# EAGLE library part MA700GQ-Z (library HKCV4)
MA700GQ-Z
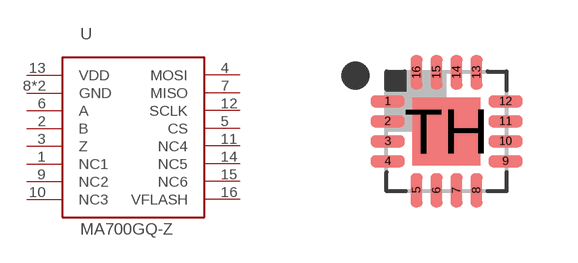
[diagram p1: symbol with the pads of QFN16; footprint QFN16]

Designator prefix U

## MA700GQ-Z (VALUE: MA700GQ-Z)  [QFN16]
1  NC1
2  B
3  Z
4  MOSI
5  CS
6  A
7  MISO
8  GND
9  NC2
10  NC3
11  NC4
12  SCLK
13  VDD
14  NC5
15  NC6
16  VFLASH
TH  GND

## Footprint QFN16 (pad centres in mm)
RTE (S-PQFP-N16) 3x3 mm Source: www.ti.com .. tpa6132a2 direct path stereo $.65.pdf
smd 0.85 x 0.3: 1 -1.475,0.75; 2 -1.475,0.25; 3 -1.475,-0.25; 4 -1.475,-0.75; 9 1.475,-0.75; 10 1.475,-0.25; 11 1.475,0.25; 12 1.475,0.75
smd 0.3 x 0.85: 5 -0.75,-1.475; 6 -0.25,-1.475; 7 0.25,-1.475; 8 0.75,-1.475; 13 0.75,1.475; 14 0.25,1.475; 15 -0.25,1.475; 16 -0.75,1.475
smd 1.7 x 1.7: TH 0,0